# EAGLE library part 5.8X5.8SWITCH (library 1-LDA_Board)
SLIDE SWITCH 2P2T Part No. SS-22F05-G(A)4 Source: CANAL ELECTRONIC CO., LTD .. switsch.pdf
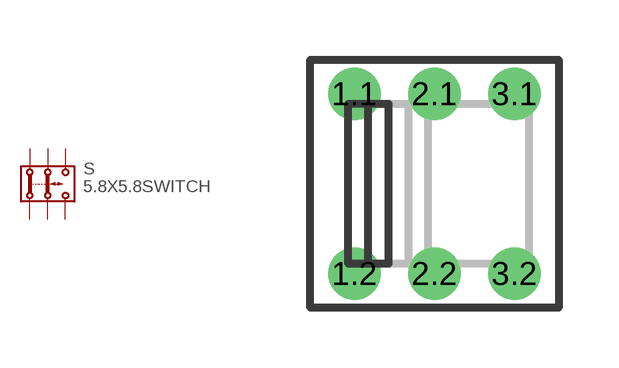
[diagram p2: symbol with the pads of 2P2T; footprint 2P2T]

Designator prefix S

## 5.8X5.8SWITCH  [2P2T]
1.1  1.1  pas
1.2  1.2  pas
2.1  2.1  pas
2.2  2.2  pas
3.1  3.1  pas
3.2  3.2  pas

## Footprint 2P2T (pad centres in mm)
drill 0.8: 1.1 -2,2.25; 1.2 -2,-2.25; 2.1 0,2.25; 2.2 0,-2.25; 3.1 2,2.25; 3.2 2,-2.25